# Altium footprint library MO-241, DHVQFN20.PcbLib: 1 footprints
Each footprint in its own frame and in the unit in brackets; x right, y up, seen from the top. Pads: shape width x height; smd on the part's side, far side on the other; paste and mask are expansions set on the pad; w line width, h text height; cw(c..) or ccw(c..) is an arc to the next point about the centre after c.
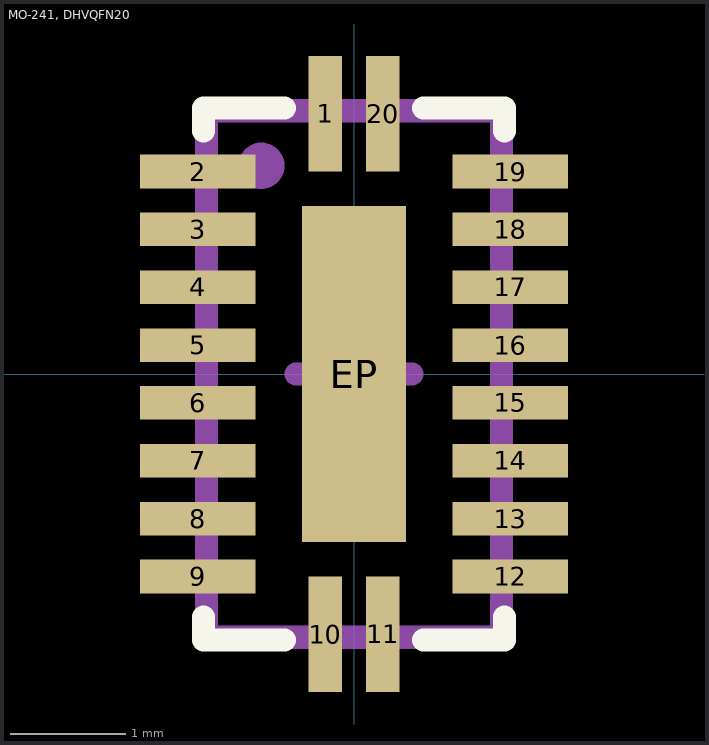
[diagram p0: the footprint, top view; thin cyan lines are the x and y axes]

## MO-241, DHVQFN20 [mm] "MO-241, DHVQFN20"
height 0.9
pads (21):
  rect 0.29x1 smd mask+0.05: 1(-0.25,2.25) 10(-0.25,-2.25) 11(0.25,-2.25) 20(0.25,2.25)
  rect 1x0.29 smd mask+0.05: 2(-1.35,1.75) 3(-1.35,1.25) 4(-1.35,0.75) 5(-1.35,0.25) 6(-1.35,-0.25) 7(-1.35,-0.75) 8(-1.35,-1.25) 9(-1.35,-1.75) 12(1.35,-1.75) 13(1.35,-1.25) 14(1.35,-0.75) 15(1.35,-0.25) 16(1.35,0.25) 17(1.35,0.75) 18(1.35,1.25) 19(1.35,1.75)
  rect 0.9x2.9 smd paste-1 mask+0.05: EP(0,0)
Top Overlay:
  lines w0.2: -1.3,-2.1 -1.3,-2.3 -0.6,-2.3 ; -1.3,2.1 -1.3,2.3 -0.6,2.3 ; 0.6,-2.3 1.3,-2.3 1.3,-2.1 ; 0.6,2.3 1.3,2.3 1.3,2.1
Top Paste:
  rectangle: -0.2,-0.85 0.2,-0.2
  rectangle: -0.2,0.2 0.2,0.85
Top Assembly:
  circle w0.2: c-0.8,1.8 r0.1
  lines w0.2: -1.275,-2.275 -1.275,2.275 1.275,2.275 1.275,-2.275 -1.275,-2.275
Top Designator:
  text ".Designator" at -2.5,-4.218 h1.5
Top Component Center:
  lines w0.2: -0.5,0 0.5,0 ; 0,-0.5 0,0.5
3D body: height 1.01, standoff 0.5, extent -1,1.6 -0.6,2
3D body "MO-241, DHVQFN20.step": height 1, standoff 0, extent -1.26,-2.26 1.26,2.26